# EAGLE library part TCMT4600 (library prj_snowmaker)
TCMT4600 Vishay Semiconductors Optocoupler, Phototransistor Output, AC Input, Single/Quad Channel, Half Pitch Mini-Flat Package
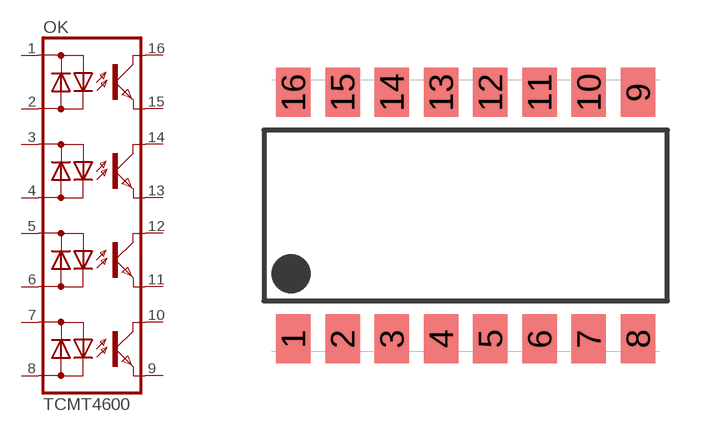
[diagram p1: symbol with the pads of SMD-16; footprint SMD-16]

Designator prefix OK

## TCMT4600  [SMD-16]
1  OK1-AC1  pas
2  OK1-AC2  pas
3  OK2-AC1  pas
4  OK2-AC2  pas
5  OK3-AC1  pas
6  OK3-AC2  pas
7  OK4-AC1  pas
8  OK4-AC2  pas
9  OK4-E  pas
10  OK4-C  pas
11  OK3-E  pas
12  OK3-C  pas
13  OK2-E  pas
14  OK2-C  pas
15  OK1-E  pas
16  OK1-C  pas

## Footprint SMD-16 (pad centres in mm)
smd 0.889 x 1.27: 1 -4.445,-3.175; 2 -3.175,-3.175; 3 -1.905,-3.175; 4 -0.635,-3.175; 5 0.635,-3.175; 6 1.905,-3.175; 7 3.175,-3.175; 8 4.445,-3.175; 9 4.445,3.175; 10 3.175,3.175; 11 1.905,3.175; 12 0.635,3.175; 13 -0.635,3.175; 14 -1.905,3.175; 15 -3.175,3.175; 16 -4.445,3.175